# EAGLE library part TCM2-63WX+ (library My_Library)
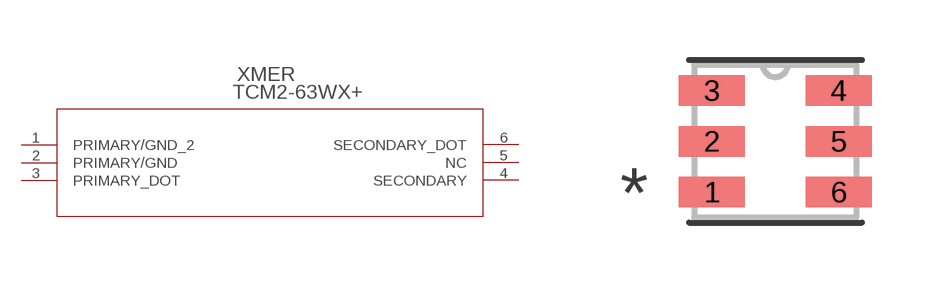
[diagram p9: symbol with the pads of DB1627_MNC; footprint DB1627_MNC]

Designator prefix XMER

## TCM2-63WX+ (COPYRIGHT: Copyright (C) 2024 Ultra Librarian. All rights reserved.; MANUFACTURER_PART_NUMBER: TCM2-63WX+; MFR_NAME: Mini Circuits)  [DB1627_MNC]
1  PRIMARY/GND_2  pas
2  PRIMARY/GND  pas
3  PRIMARY_DOT  pas
4  SECONDARY  pas
5  NC  pas
6  SECONDARY_DOT  pas

## Footprint DB1627_MNC (pad centres in mm)
smd 1.651 x 0.762: 1 -1.587,-1.27; 2 -1.587,0; 3 -1.587,1.27; 4 1.587,1.27; 5 1.587,0; 6 1.587,-1.27